# Altium footprint library AG.Passive.PcbLib: 14 footprints
Each footprint in its own frame and in the unit in brackets; x right, y up, seen from the top. Pads: shape width x height; smd on the part's side, far side on the other; paste and mask are expansions set on the pad; w line width, h text height; cw(c..) or ccw(c..) is an arc to the next point about the centre after c.
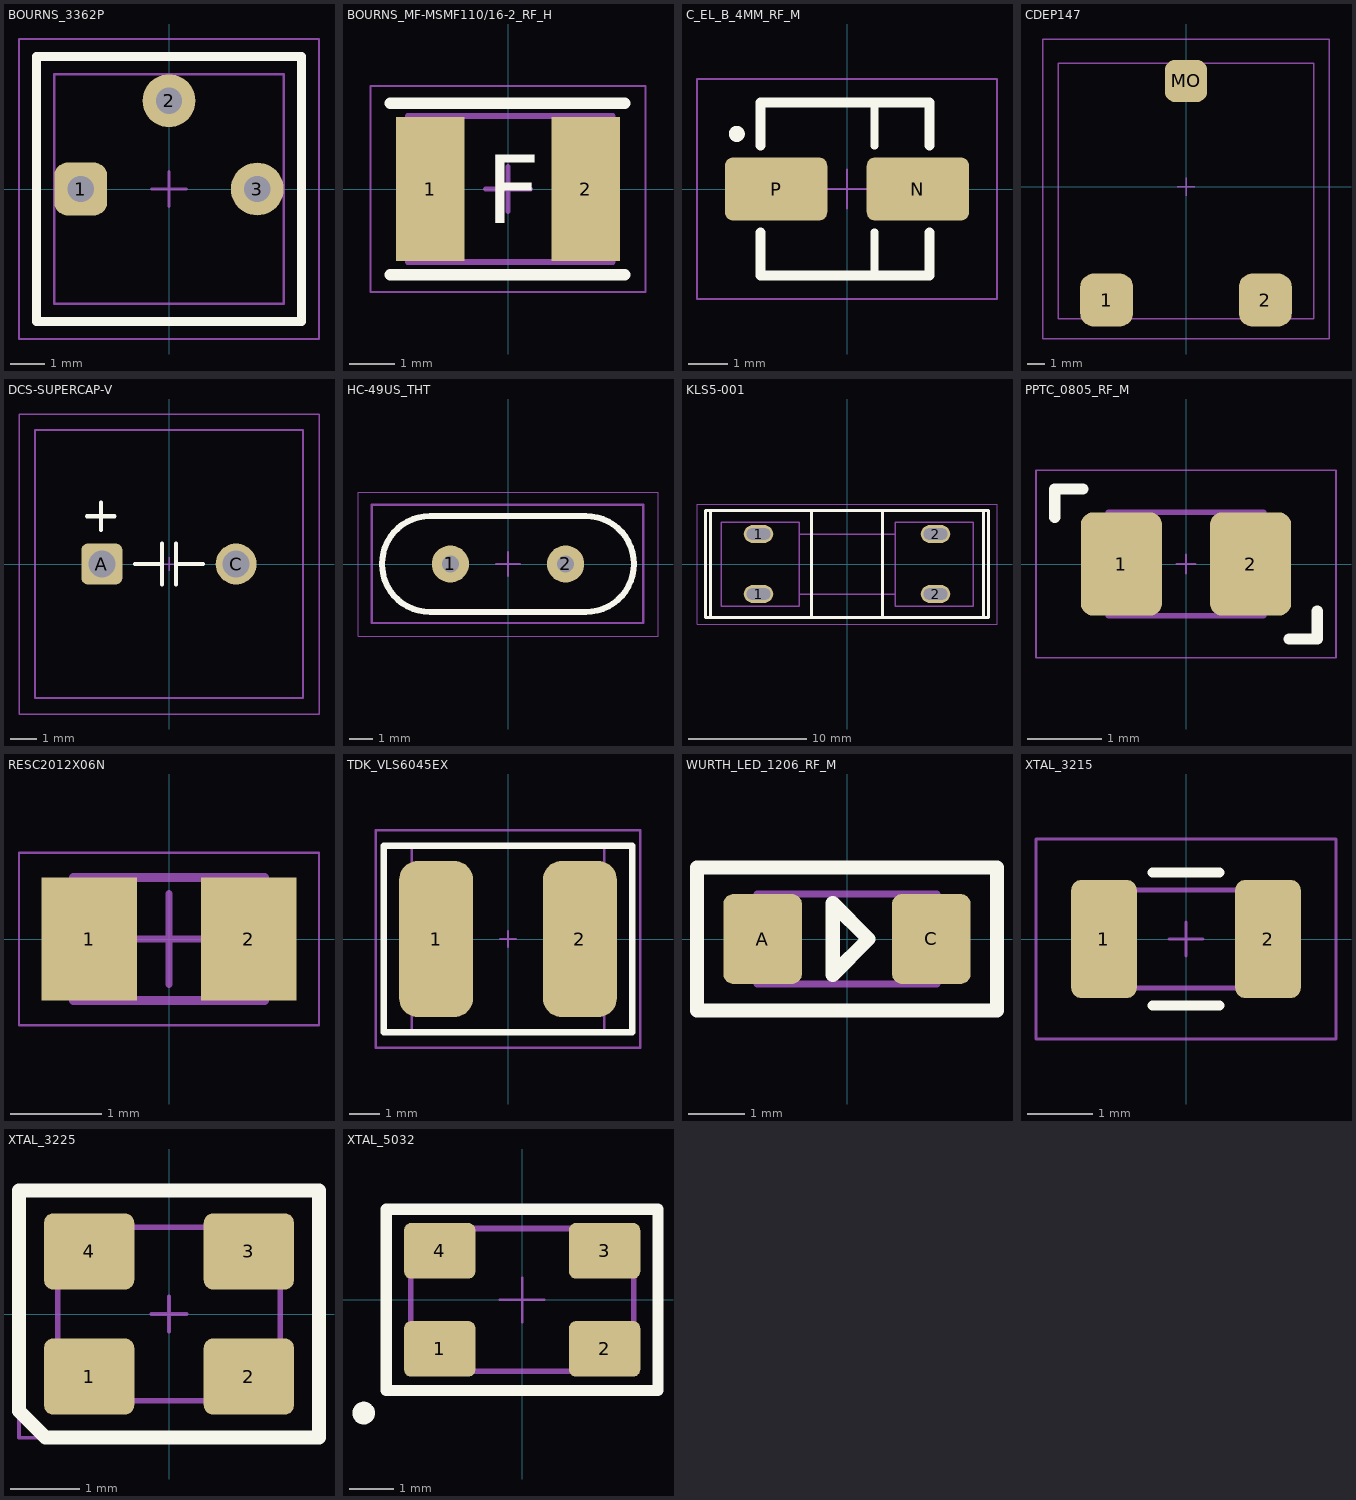
[diagram p0: the footprints below, top view; thin cyan lines are the x and y axes]

## BOURNS_3362P [mil] "Potentiometer Top Adjust"
height 192.13
pads (3):
  rrect50% 60x60 hole 30: 1(-100,0)
  round 60 hole 30: 2(0,100) 3(100,0)
Top Overlay:
  lines w10: -150,-150 -150,150 150,150 150,-150 -150,-150
Mechanical 13:
  lines w3: -129.92,-129.92 -129.92,129.92 129.92,129.92 129.92,-129.92 -129.92,-129.92
Mechanical 15:
  lines w2: -170,-170 170,-170 170,170 -170,170 -170,-170
  lines w3.94: -19.68,0 19.69,0 ; 0,-19.68 0,19.68
3D body "BOURNS_3362P-1-253.STEP": height 192.13, standoff -229.92, extent -129.91,-137.59 129.93,137.6

## BOURNS_MF-MSMF110/16-2_RF_H [mil] "PTC RESET FUSE SMD 1812"
height 33
pads (2):
  rect 60x126 smd: 1(-68,0) 2(68,0)
Top Overlay:
  lines w10: -103,-75 102,-75 ; -103,75 102,75
  text "F" at -19,-30 h60
Mechanical 1:
  lines w5: -87.57,-63.77 -87.57,63.78 91.56,63.78 91.56,-63.77 -87.57,-63.77
Mechanical 15:
  lines w2: -120,-90 -120,90 120,90 120,-90 -120,-90
  lines w3.94: -19.69,0 19.68,0 ; 0,-19.69 0,19.68
3D body "mf-msmf110_16.stp": height 25.59, standoff 0, extent -87.57,-63.77 91.56,63.78

## C_EL_B_4MM_RF_M [mm] "Electrolytic Capacitor SMD Size B 4mm OD"
pads (2):
  rrect25% 2.6x1.6 smd: N(1.8,0) P(-1.8,0)
Top Overlay:
  circle w0.254: c-2.8,1.4 r0.076
  lines w0.2: 0.7,-2.2 0.7,-1.1 ; 0.7,1.1 0.7,2.2
  lines w0.254: 2.1,-1.1 2.1,-2.2 -2.2,-2.2 -2.2,-1.1 ; 2.1,1.1 2.1,2.2 -2.2,2.2 -2.2,1.1 ; -2.2,-1.1 -2.2,-1.1 ; -2.2,1.1 -2.2,1.1
Mechanical 15:
  lines w0.05: -0.5,0 0.5,0 ; 0,-0.5 0,0.5 ; -3.81,-2.794 3.81,-2.794 3.81,2.794 -3.81,2.794 -3.81,-2.794
3D body "User Library-CAPSMD4x3_9.STEP": height 3.91, standoff 0, extent -2.35,-2.175 2.25,2.125

## CDEP147 [mm] "SMD Power Inductor 14.9x14.9x8-mm Reflow"
height 8
pads (3):
  rrect50% 3x3 smd: 1(-4.5,-6.425) 2(4.5,-6.425)
  rrect50% 2.4x2.4 smd: MO(0,6)
Mechanical 13:
  lines w0.076: -7.25,-7.5 7.25,-7.5 7.25,7 -7.25,7 -7.25,-7.5
Mechanical 15:
  lines w0.076: -0.5,0 0.5,0 ; 0,-0.5 0,0.5 ; -8.128,-8.636 -8.128,8.382 8.128,8.382 8.128,-8.636 -8.128,-8.636
3D body "CDEP147.step": height 8, standoff 0, extent -7.25,-7.5 7.25,7

## DCS-SUPERCAP-V [mil] "KORCHIP Super Capacitor V-Type Through-Hole"
height 492.13
pads (2):
  rrect30% 60x60 hole 40: A(-98.43,0)
  round 60 hole 40: C(98.43,0)
Top Overlay:
  lines w6: -120,70 -80,70 ; -100,50 -100,90 ; -50,0 -10,0 ; -10,-30 -10,30 ; 10,-30 10,30 ; 10,0 50,0
Mechanical 13:
  lines w3: -196.84,-196.84 -196.84,196.86 196.86,196.86 196.86,-196.84 -196.84,-196.84
Mechanical 15:
  lines w2: -10,0 10,0 ; 0,-10 0,10 ; -220,-220 -220,220 220,220 220,-220 -220,-220
3D body "User Library-maxwell cap straight pins.step": height 787.4, standoff -102.36, extent -196.84,-196.84 196.86,196.86

## HC-49US_THT [mil] "Generic Crystal"
height 78.74
pads (2):
  round 62 hole 28: 1(-96.06,0) 2(96.06,0)
Top Overlay:
  lines w10: -130.06,-80 cw(c-130.06,0) -130.06,80 129.94,80 cw(c129.94,0) 129.94,-80 -130.06,-80
Mechanical 13:
  lines w3.94: -227.07,-98.22 -227.07,98.63 225.68,98.63 225.68,-98.22 -227.07,-98.22
Mechanical 15:
  lines w1.97: -250,-120 -250,120 250,120 250,-120 -250,-120
  lines w3.94: -19.68,0 19.69,0 ; 0,-19.68 0,19.69
3D body "ABL.STEP": height 137.95, standoff -216.38, extent -227.07,-98.22 225.68,98.63

## KLS5-001 [mm] "KLS5-001 5x20mm Fuse Holder"
height 8.001
pads (4):
  oval 2.5x1.5 hole 1 slot 2 at 0 deg: 1(-7.493,-2.54) 1(-7.493,2.54) 2(7.493,-2.54) 2(7.493,2.54)
Top Overlay:
  lines w0.254: -11.557,-4.521 -11.557,4.521 ; 11.557,-4.521 11.557,4.521 ; -2.997,-4.521 2.997,-4.521 ; -2.997,-4.521 -11.989,-4.521 -11.989,4.521 -2.997,4.521 ; -2.997,-4.521 -2.997,4.521 ; -2.997,4.521 2.997,4.521 ; 2.997,-4.521 2.997,4.521 ; 2.997,-4.521 11.989,-4.521 11.989,4.521 2.997,4.521
Mechanical 13:
  lines w0.127: -4.064,-2.54 4.064,-2.54 ; -4.064,2.54 4.064,2.54 ; -10.668,-3.556 -10.668,3.556 -4.064,3.556 -4.064,-3.556 -10.668,-3.556 ; 4.064,-3.556 4.064,3.556 10.668,3.556 10.668,-3.556 4.064,-3.556
Mechanical 15:
  lines w0.051: -12.7,-5.08 12.7,-5.08 12.7,5.08 -12.192,5.08 -12.7,5.08 -12.7,-5.08
3D body "MPD_BK-6002.STEP": height 7.27, standoff -3.4, extent 5.12,-2.54 10.12,2.54
3D body "MPD_BK-6002.STEP": height 7.27, standoff -3.4, extent -9.993,-2.54 -4.993,2.54

## PPTC_0805_RF_M [mm] "Resettable Fuse SMD 0805 Reflow Medium Density"
pads (2):
  rrect30% 1.1x1.4 smd: 1(-0.875,0) 2(0.875,0)
Top Overlay:
  lines w0.152: -1.778,0.635 -1.778,1.016 -1.397,1.016 ; 1.397,-1.016 1.778,-1.016 1.778,-0.635
Mechanical 13:
  lines w0.076: -1.05,-0.7 -1.05,0.7 1.05,0.7 1.05,-0.7 -1.05,-0.7
Mechanical 15:
  lines w0.025: -0.127,0 0.127,0 ; 0,-0.127 0,0.127 ; -2.032,-1.27 2.032,-1.27 2.032,1.27 -2.032,1.27 -2.032,-1.27
3D body "PICOSMDC050S.STEP": height 0.94, standoff 0.01, extent -1.05,-0.7 1.05,0.7

## RESC2012X06N [mm] "Chip Resistor, 2-Leads, Body 2,00x1,25mm, IPC Medium Density"
height 0.6
pads (2):
  rect 1.05x1.35 smd: 1(-0.875,0) 2(0.875,0)
Mechanical 13:
  lines w0.1: -1.05,-0.675 -1.05,0.675 1.05,0.675 1.05,-0.675 -1.05,-0.675
Mechanical 15:
  lines w0.025: -1.65,-0.95 -1.65,0.95 1.65,0.95 1.65,-0.95 -1.65,-0.95
  lines w0.076: -0.5,0 0.5,0 ; 0,-0.5 0,0.5
3D body "RESC2012X06N.step": height 0.6, standoff 0, extent -1.05,-0.675 1.05,0.675

## TDK_VLS6045EX [mil] "TDK VLS6045EX Series Fixed Inductor SMD 6.00x6.30mm"
height 177.17
pads (2):
  rrect50% 95x201 smd: 1(-92.5,0) 2(92.5,0)
Top Overlay:
  lines w8: -160,-120 160,-120 160,120 -160,120 -160,-120
Mechanical 13:
  lines w3: -124.01,-118.1 -124.01,118.12 124.02,118.12 124.02,-118.1 -124.01,-118.1
Mechanical 15:
  lines w3: -10,0 10,0 ; 0,-10 0,10 ; -170,-140 170,-140 170,140 -170,140 -170,-140
3D body "vls6045ex-h.step": height 176.63, standoff -0.54, extent -124.01,-118.1 124.02,118.12

## WURTH_LED_1206_RF_M [mm] "Wurth LED SMD 1206"
height 0.68
pads (2):
  rrect25% 1.4x1.6 smd: A(-1.5,0) C(1.5,0)
Top Overlay:
  lines w0.254: -2.667,-1.27 -2.667,1.27 2.667,1.27 2.667,-1.27 -2.667,-1.27 ; -0.254,-0.635 0.381,0 -0.254,0.635 -0.254,-0.635
Mechanical 13:
  lines w0.127: -1.6,-0.8 1.6,-0.8 1.6,0.8 -1.6,0.8 -1.6,-0.8
Mechanical 15:
  lines w0.05: -2.667,-1.27 -2.667,1.27 2.667,1.27 2.667,-1.27 -2.667,-1.27
3D body "WURTH_150120AS75000.stp": height 0.68, standoff 0, extent -1.6,-0.8 1.6,0.8

## XTAL_3215 [mm] "Crystal SMD 3.2x1.5mm 2-Flat Leads"
height 0.8
pads (2):
  rrect30% 1x1.8 smd: 1(-1.25,0) 2(1.25,0)
Top Overlay:
  lines w0.152: -0.508,-1.016 0.508,-1.016 ; -0.508,1.016 0.508,1.016
Mechanical 13:
  lines w0.076: -1.6,-0.75 -1.6,0.75 1.6,0.75 1.6,-0.75 -1.6,-0.75
Mechanical 15:
  lines w0.051: -0.254,0 0.254,0 ; 0,-0.254 0,0.254 ; -2.286,-1.524 -2.286,1.524 2.286,1.524 2.286,-1.524 -2.286,-1.524
3D body "FC-135.STEP": height 0.9, standoff 0, extent -1.6,-0.75 1.6,0.75

## XTAL_3225 [mm] "ECX-32: 4-SMD No Lead (3.20mm x 2.50mm)"
height 0.8
pads (4):
  rrect25% 1.3x1.1 smd: 1(-1.15,-0.9) 2(1.15,-0.9) 3(1.15,0.9) 4(-1.15,0.9)
Top Overlay:
  lines w0.203: -2.159,-1.397 -2.159,1.778 2.159,1.778 2.159,-1.778 -1.778,-1.778 -2.159,-1.397
Mechanical 13:
  lines w0.076: -1.6,-1.25 -1.6,1.25 1.6,1.25 1.6,-1.25 -1.6,-1.25
Mechanical 15:
  lines w0.051: -0.254,0 0.254,0 ; 0,-0.254 0,0.254 ; -2.159,-1.778 2.159,-1.778 2.159,1.778 -2.159,1.778 -2.159,-1.778
3D body "ECS-250-20-33-AEL-TR.STEP": height 0.8, standoff 0, extent -1.6,-1.25 1.6,1.25

## XTAL_5032 [mm] "ECX-53BQ: 4-SMD No Lead"
height 0.889
pads (4):
  rrect25% 1.6x1.25 smd: 1(-1.85,-1.1) 2(1.85,-1.1) 3(1.85,1.1) 4(-1.85,1.1)
Top Overlay:
  circle w0.254: c-3.556,-2.54 r0.127
  lines w0.254: -3.048,-2.032 -3.048,2.032 3.048,2.032 3.048,-2.032 -3.048,-2.032
Mechanical 13:
  lines w0.127: -2.5,-1.6 -2.5,1.6 2.5,1.6 2.5,-1.6 -2.5,-1.6
Mechanical 15:
  lines w0.051: -0.5,0 0.5,0 ; 0,-0.5 0,0.5 ; -3.048,-2.032 -3.048,2.032 3.048,2.032 3.048,-2.032 -3.048,-2.032
3D body "ECS-135.6-18-30BQ-DS.STEP": height 0.85, standoff 0, extent -2.5,-1.6 2.5,1.6